# Altium integrated library FTDI FT12 Series.IntLib: 12 symbols
Pins are listed as number, name and electrical type; pins without a type are passive.

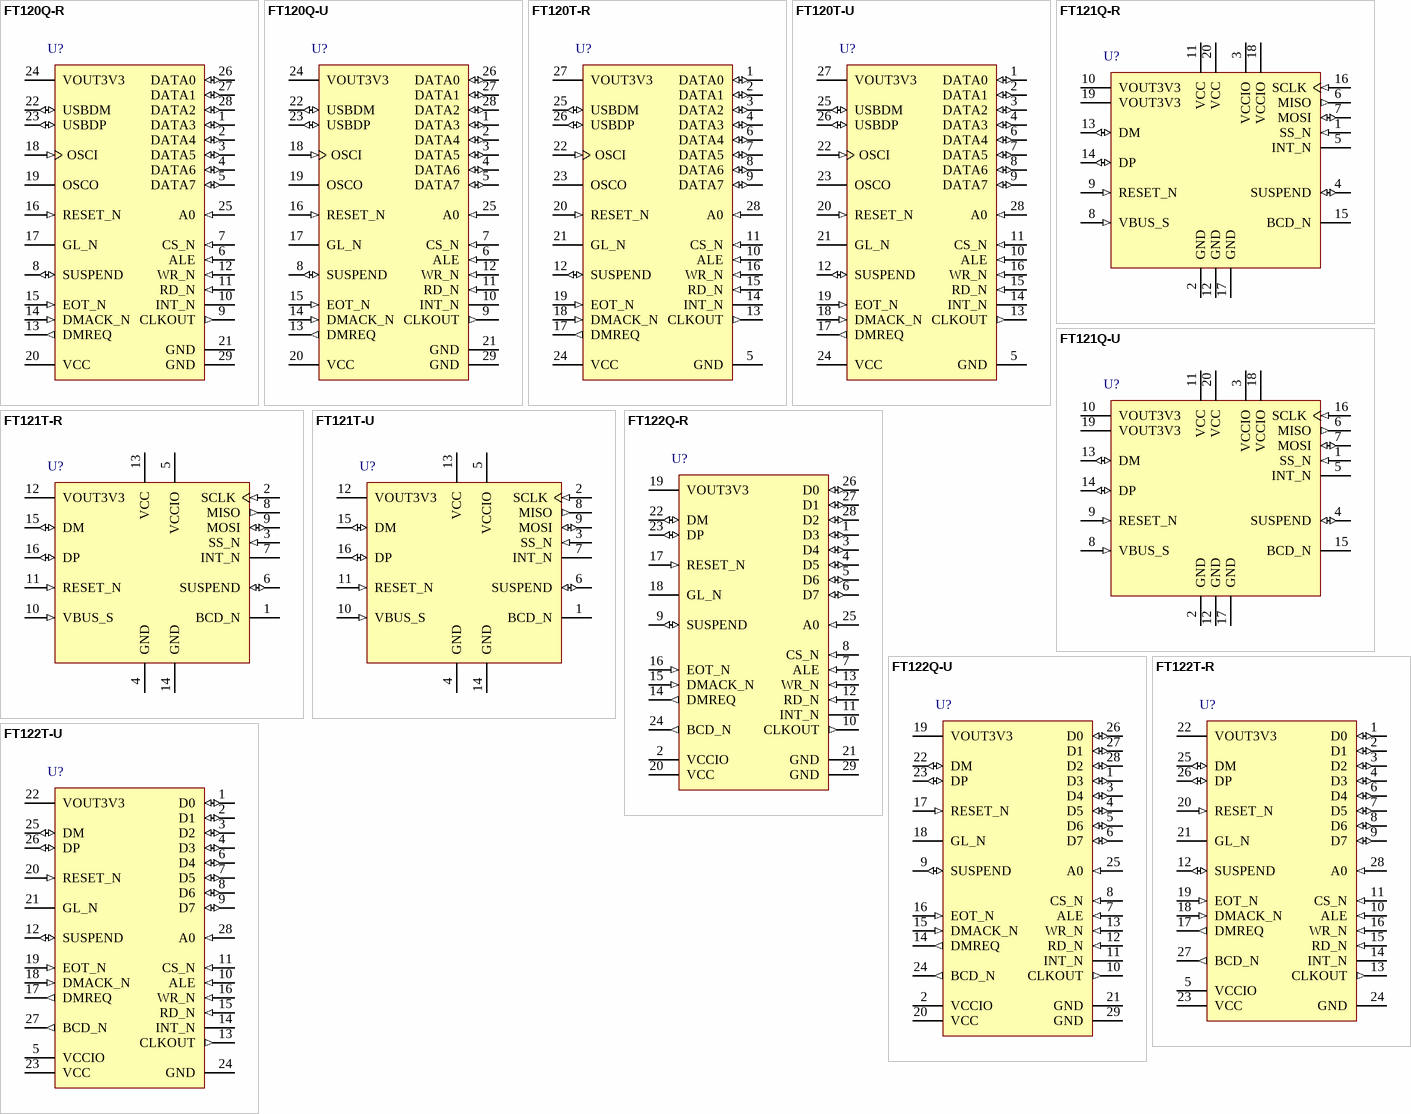
[diagram p0: symbols FT120Q-R to FT122T-U]

## FT120Q-R
designator U?
FT120 USB Device Controller with Parallel Bus IC, -40 to +85 degC, 28-Pin QFN, Pb-Free, Tape and Reel; Manufacturer: FTDI; PartNumber: FT120Q-R; DatasheetVersion: ver 1.0, May-2012; PackageVersion: May-12; PackageReference: QFN-28; PackageDescription: 28-Pin Quad Flat No-Lead, 4 x 4 mm Body, 0.4 mm Pitch, 2.5 x 2.5 mm Exposed Pad; ComponentLink1Description: Manufacturer URL; ComponentLink1URL: http://www.ftdichip.com/; ComponentLink2Description: Datasheet; ComponentLink2URL: http://www.ftdichip.com/Support/Documents/DataSheets/ICs/DS_FT120.pdf
footprint QFN-28_N (QFN, 28-Leads, Body 4x4mm, Pitch 0.4mm, Thermal Pad 2.5x2.5mm, IPC Medium Density)
footprint QFN-28_L (QFN, 28-Leads, Body 4x4mm, Pitch 0.4mm, Thermal Pad 2.5x2.5mm, IPC High Density)
footprint QFN-28_M (QFN, 28-Leads, Body 4x4mm, Pitch 0.4mm, Thermal Pad 2.5x2.5mm, IPC Low Density)
pins: 1 DATA3 (io) "Data bus bit 3.", 2 DATA4 (io) "Data bus bit 4.", 3 DATA5 (io) "Data bus bit 5.", 4 DATA6 (io) "Data bus bit 6.", 5 DATA7 (io) "Data bus bit 7.", 6 ALE (in) "Address latch enable for multiplexed address/data bus configuration. This pin must be pulled Low for non-multiplexed address/data bus configuration.", 7 CS_N (in) "Chip select (Active Low).", 8 SUSPEND (io) "Device suspend (output) and wakeup (input)", 9 CLKOUT (out) "Programmable output clock.", 10 INT_N (oc) "Interrupt (Active Low).", 11 RD_N (in) "Read enable (Active Low).", 12 WR_N (in) "Write enable (Active Low).", 13 DMREQ (out) "DMA request.", 14 DMACK_N (in) "DMA acknowledge (Active Low).", 15 EOT_N (in) "End of DMA transfer (Active Low). Also function as Vbus sensing input for self-powered application.", 16 RESET_N (in) "Asynchronous reset (Active Low).", 17 GL_N (oc) "USB bus activity indicator (Active Low)", 18 OSCI (in) "Crystal connection input (6MHz); alternatively, a 1.8V square wave clock can be applied.", 19 OSCO "Crystal connection output (6MHz) ; if the external clock signal is connected to OSCI, then OSCO should be left unconnected", 20 VCC (power) "Power supply (3.3V or 5V)", 21 GND (power) "Ground.", 22 USBDM (io) "USB data signal minus", 23 USBDP (io) "USB data signal plus", 24 VOUT3V3 (power) "3.3V regulator output for 5V operation; To operate the IC at 3.3 V, supply 3.3 V to both the VCC and VOUT3V3 pins", 25 A0 (in) "Address bit for non-multiplexed address/data bus configuration. A0=1 indicates command phase; A0=0 indicates data phase. This pin must be pulled High for multiplexed address/data bus configuration.", 26 DATA0 (io) "Data bus bit 0.", 27 DATA1 (io) "Data bus bit 1.", 28 DATA2 (io) "Data bus bit 2.", 29 GND (power) "Ground. Die pad for QFN-28 package."

## FT120Q-U
designator U?
FT120 USB Device Controller with Parallel Bus IC, -40 to +85 degC, 28-Pin QFN, Pb-Free, Tube; Manufacturer: FTDI; PartNumber: FT120Q-U; DatasheetVersion: ver 1.0, May-2012; PackageVersion: May-12; PackageReference: QFN-28; PackageDescription: 28-Pin Quad Flat No-Lead, 4 x 4 mm Body, 0.4 mm Pitch, 2.5 x 2.5 mm Exposed Pad; ComponentLink1Description: Manufacturer URL; ComponentLink1URL: http://www.ftdichip.com/; ComponentLink2Description: Datasheet; ComponentLink2URL: http://www.ftdichip.com/Support/Documents/DataSheets/ICs/DS_FT120.pdf
footprint QFN-28_N (QFN, 28-Leads, Body 4x4mm, Pitch 0.4mm, Thermal Pad 2.5x2.5mm, IPC Medium Density)
footprint QFN-28_L (QFN, 28-Leads, Body 4x4mm, Pitch 0.4mm, Thermal Pad 2.5x2.5mm, IPC High Density)
footprint QFN-28_M (QFN, 28-Leads, Body 4x4mm, Pitch 0.4mm, Thermal Pad 2.5x2.5mm, IPC Low Density)
pins: 1 DATA3 (io) "Data bus bit 3.", 2 DATA4 (io) "Data bus bit 4.", 3 DATA5 (io) "Data bus bit 5.", 4 DATA6 (io) "Data bus bit 6.", 5 DATA7 (io) "Data bus bit 7.", 6 ALE (in) "Address latch enable for multiplexed address/data bus configuration. This pin must be pulled Low for non-multiplexed address/data bus configuration.", 7 CS_N (in) "Chip select (Active Low).", 8 SUSPEND (io) "Device suspend (output) and wakeup (input)", 9 CLKOUT (out) "Programmable output clock.", 10 INT_N (oc) "Interrupt (Active Low).", 11 RD_N (in) "Read enable (Active Low).", 12 WR_N (in) "Write enable (Active Low).", 13 DMREQ (out) "DMA request.", 14 DMACK_N (in) "DMA acknowledge (Active Low).", 15 EOT_N (in) "End of DMA transfer (Active Low). Also function as Vbus sensing input for self-powered application.", 16 RESET_N (in) "Asynchronous reset (Active Low).", 17 GL_N (oc) "USB bus activity indicator (Active Low)", 18 OSCI (in) "Crystal connection input (6MHz); alternatively, a 1.8V square wave clock can be applied.", 19 OSCO "Crystal connection output (6MHz) ; if the external clock signal is connected to OSCI, then OSCO should be left unconnected", 20 VCC (power) "Power supply (3.3V or 5V)", 21 GND (power) "Ground.", 22 USBDM (io) "USB data signal minus", 23 USBDP (io) "USB data signal plus", 24 VOUT3V3 (power) "3.3V regulator output for 5V operation; To operate the IC at 3.3 V, supply 3.3 V to both the VCC and VOUT3V3 pins", 25 A0 (in) "Address bit for non-multiplexed address/data bus configuration. A0=1 indicates command phase; A0=0 indicates data phase. This pin must be pulled High for multiplexed address/data bus configuration.", 26 DATA0 (io) "Data bus bit 0.", 27 DATA1 (io) "Data bus bit 1.", 28 DATA2 (io) "Data bus bit 2.", 29 GND (power) "Ground. Die pad for QFN-28 package."

## FT120T-R
designator U?
FT120 USB Device Controller with Parallel Bus IC, -40 to +85 degC, 28-Pin TSSOP, Pb-Free, Tape and Reel; Manufacturer: FTDI; PartNumber: FT120T-R; DatasheetVersion: ver 1.0, May-2012; PackageVersion: May-12; PackageReference: TSSOP-28; PackageDescription: 28-Pin Thin Small Outline Package, 9.7 x 4.4 mm Body, 0.65 mm Pitch; ComponentLink1Description: Manufacturer URL; ComponentLink1URL: http://www.ftdichip.com/; ComponentLink2Description: Datasheet; ComponentLink2URL: http://www.ftdichip.com/Support/Documents/DataSheets/ICs/DS_FT120.pdf
footprint TSSOP-28_N (SOP, 28-Leads, Body 9.7x4.4mm, Pitch 0.65mm, IPC Medium Density)
footprint TSSOP-28_L (SOP, 28-Leads, Body 9.7x4.4mm, Pitch 0.65mm, IPC High Density)
footprint TSSOP-28_M (SOP, 28-Leads, Body 9.7x4.4mm, Pitch 0.65mm, IPC Low Density)
pins: 1 DATA0 (io) "Data bus bit 0.", 2 DATA1 (io) "Data bus bit 1.", 3 DATA2 (io) "Data bus bit 2.", 4 DATA3 (io) "Data bus bit 3.", 5 GND (power) "Ground.", 6 DATA4 (io) "Data bus bit 4.", 7 DATA5 (io) "Data bus bit 5.", 8 DATA6 (io) "Data bus bit 6.", 9 DATA7 (io) "Data bus bit 7.", 10 ALE (in) "Address latch enable for multiplexed address/data bus configuration. This pin must be pulled Low for non-multiplexed address/data bus configuration.", 11 CS_N (in) "Chip select (Active Low).", 12 SUSPEND (io) "Device suspend (output) and wakeup (input).", 13 CLKOUT (out) "Programmable output clock.", 14 INT_N (oc) "Interrupt (Active Low).", 15 RD_N (in) "Read enable (Active Low).", 16 WR_N (in) "Write enable (Active Low).", 17 DMREQ (out) "DMA request.", 18 DMACK_N (in) "DMA acknowledge (Active Low).", 19 EOT_N (in) "End of DMA transfer (Active Low). Also function as Vbus sensing input for self-powered application.", 20 RESET_N (in) "Asynchronous reset (Active Low).", 21 GL_N (oc) "USB bus activity indicator (Active Low)", 22 OSCI (in) "Crystal connection input (6MHz); alternatively, a 1.8V square wave clock can be applied.", 23 OSCO "Crystal connection output (6MHz) ; if the external clock signal is connected to OSCI, then OSCO should be left unconnected", 24 VCC (power) "Power supply (3.3V or 5V)", 25 USBDM (io) "USB data signal minus", 26 USBDP (io) "USB data signal plus", 27 VOUT3V3 (power) "3.3V regulator output for 5V operation; To operate the IC at 3.3 V, supply 3.3 V to both the VCC and VOUT3V3 pins", 28 A0 (in) "Address bit for non-multiplexed address/data bus configuration. A0=1 indicates command phase; A0=0 indicates data phase. This pin must be pulled High for multiplexed address/data bus configuration."

## FT120T-U
designator U?
FT120 USB Device Controller with Parallel Bus IC, -40 to +85 degC, 28-Pin TSSOP, Pb-Free, Tube; Manufacturer: FTDI; PartNumber: FT120T-U; DatasheetVersion: ver 1.0, May-2012; PackageVersion: May-12; PackageReference: TSSOP-28; PackageDescription: 28-Pin Thin Small Outline Package, 9.7 x 4.4 mm Body, 0.65 mm Pitch; ComponentLink1Description: Manufacturer URL; ComponentLink1URL: http://www.ftdichip.com/; ComponentLink2Description: Datasheet; ComponentLink2URL: http://www.ftdichip.com/Support/Documents/DataSheets/ICs/DS_FT120.pdf
footprint TSSOP-28_N (SOP, 28-Leads, Body 9.7x4.4mm, Pitch 0.65mm, IPC Medium Density)
footprint TSSOP-28_L (SOP, 28-Leads, Body 9.7x4.4mm, Pitch 0.65mm, IPC High Density)
footprint TSSOP-28_M (SOP, 28-Leads, Body 9.7x4.4mm, Pitch 0.65mm, IPC Low Density)
pins: 1 DATA0 (io) "Data bus bit 0.", 2 DATA1 (io) "Data bus bit 1.", 3 DATA2 (io) "Data bus bit 2.", 4 DATA3 (io) "Data bus bit 3.", 5 GND (power) "Ground.", 6 DATA4 (io) "Data bus bit 4.", 7 DATA5 (io) "Data bus bit 5.", 8 DATA6 (io) "Data bus bit 6.", 9 DATA7 (io) "Data bus bit 7.", 10 ALE (in) "Address latch enable for multiplexed address/data bus configuration. This pin must be pulled Low for non-multiplexed address/data bus configuration.", 11 CS_N (in) "Chip select (Active Low).", 12 SUSPEND (io) "Device suspend (output) and wakeup (input).", 13 CLKOUT (out) "Programmable output clock.", 14 INT_N (oc) "Interrupt (Active Low).", 15 RD_N (in) "Read enable (Active Low).", 16 WR_N (in) "Write enable (Active Low).", 17 DMREQ (out) "DMA request.", 18 DMACK_N (in) "DMA acknowledge (Active Low).", 19 EOT_N (in) "End of DMA transfer (Active Low). Also function as Vbus sensing input for self-powered application.", 20 RESET_N (in) "Asynchronous reset (Active Low).", 21 GL_N (oc) "USB bus activity indicator (Active Low)", 22 OSCI (in) "Crystal connection input (6MHz); alternatively, a 1.8V square wave clock can be applied.", 23 OSCO "Crystal connection output (6MHz) ; if the external clock signal is connected to OSCI, then OSCO should be left unconnected", 24 VCC (power) "Power supply (3.3V or 5V)", 25 USBDM (io) "USB data signal minus", 26 USBDP (io) "USB data signal plus", 27 VOUT3V3 (power) "3.3V regulator output for 5V operation; To operate the IC at 3.3 V, supply 3.3 V to both the VCC and VOUT3V3 pins", 28 A0 (in) "Address bit for non-multiplexed address/data bus configuration. A0=1 indicates command phase; A0=0 indicates data phase. This pin must be pulled High for multiplexed address/data bus configuration."

## FT121Q-R
designator U?
FT121 Enhanced USB Device Controller with SPI Slave IC, -40 to +85 degC, 16-Pin QFN, Pb-Free, Tape and Reel; Manufacturer: FTDI; PartNumber: FT121Q-R; DatasheetVersion: ver 1.1, Jul-2013; PackageVersion: Jul-13; PackageReference: QFN3X3-16; PackageDescription: 16-Pin Quad Flat No-Lead, 3x3 mm Body, 0.5 mm Pitch; ComponentLink1Description: Manufacturer URL; ComponentLink1URL: http://www.ftdichip.com/; ComponentLink2Description: Datasheet; ComponentLink2URL: http://www.ftdichip.com/Support/Documents/DataSheets/ICs/DS_FT121.pdf
footprint QFN3X3-16_N (QFN, 16-Leads, Body 3x3mm, Pitch 0.5mm, IPC Medium Density)
footprint QFN3X3-16_L (QFN, 16-Leads, Body 3x3mm, Pitch 0.5mm, IPC High Density)
footprint QFN3X3-16_M (QFN, 16-Leads, Body 3x3mm, Pitch 0.5mm, IPC Low Density)
pins: 1 SS_N (in) "SPI slave select input", 2 GND (power) "Ground", 3 VCCIO (power) "IO Supply Voltage; 1.8V, 2.5V or 3.3V", 4 SUSPEND (io) "Device suspend (output) and wakeup (input)", 5 INT_N (oc) "Interrupt (Active Low)", 6 MISO (out) "4-wire mode: SPI slave output, 3-wire mode: no function. Leave it un-connected", 7 MOSI (io) "4-wire mode: SPI salve input, 3-wire mode: SPI data input/output", 8 VBUS_S (in) "Vbus sensing input", 9 RESET_N (in) "Asynchronous reset (Active Low)", 10 VOUT3V3 (power) "3.3V regulator output for 5V operation; To operate the IC at 3.3 V, supply 3.3 V to both the VCC and VOUT3V3 pins", 11 VCC (power) "Power supply (3.3V or 5V)", 12 GND (power) "Ground", 13 DM (io) "USB data signal minus", 14 DP (io) "USB data signal plus", 15 BCD_N (oc) "USB Charger detector output", 16 SCLK (in) "SPI clock input", 17 GND (power) "Ground Center bottom pad – may be left unconnected", 18 VCCIO (power) "IO Supply Voltage; 1.8V, 2.5V or 3.3V Center bottom pad – may be left unconnected", 19 VOUT3V3 (power) "3.3V regulator output for 5V operation; To operate the IC at 3.3 V, supply 3.3 V to both the VCC and VOUT3V3 pins Center bottom pad – may be left unconnected", 20 VCC (power) "Power supply (3.3V or 5V) Center bottom pad – may be left unconnected"

## FT121Q-U
designator U?
FT121 Enhanced USB Device Controller with SPI Slave IC, -40 to +85 degC, 16-Pin QFN, Pb-Free, Tube; Manufacturer: FTDI; PartNumber: FT121Q-U; DatasheetVersion: ver 1.1, Jul-2013; PackageVersion: Jul-13; PackageReference: QFN3X3-16; PackageDescription: 16-Pin Quad Flat No-Lead, 3x3 mm Body, 0.5 mm Pitch; ComponentLink1Description: Manufacturer URL; ComponentLink1URL: http://www.ftdichip.com/; ComponentLink2Description: Datasheet; ComponentLink2URL: http://www.ftdichip.com/Support/Documents/DataSheets/ICs/DS_FT121.pdf
footprint QFN3X3-16_N (QFN, 16-Leads, Body 3x3mm, Pitch 0.5mm, IPC Medium Density)
footprint QFN3X3-16_L (QFN, 16-Leads, Body 3x3mm, Pitch 0.5mm, IPC High Density)
footprint QFN3X3-16_M (QFN, 16-Leads, Body 3x3mm, Pitch 0.5mm, IPC Low Density)
pins: 1 SS_N (in) "SPI slave select input", 2 GND (power) "Ground", 3 VCCIO (power) "IO Supply Voltage; 1.8V, 2.5V or 3.3V", 4 SUSPEND (io) "Device suspend (output) and wakeup (input)", 5 INT_N (oc) "Interrupt (Active Low)", 6 MISO (out) "4-wire mode: SPI slave output, 3-wire mode: no function. Leave it un-connected", 7 MOSI (io) "4-wire mode: SPI salve input, 3-wire mode: SPI data input/output", 8 VBUS_S (in) "Vbus sensing input", 9 RESET_N (in) "Asynchronous reset (Active Low)", 10 VOUT3V3 (power) "3.3V regulator output for 5V operation; To operate the IC at 3.3 V, supply 3.3 V to both the VCC and VOUT3V3 pins", 11 VCC (power) "Power supply (3.3V or 5V)", 12 GND (power) "Ground", 13 DM (io) "USB data signal minus", 14 DP (io) "USB data signal plus", 15 BCD_N (oc) "USB Charger detector output", 16 SCLK (in) "SPI clock input", 17 GND (power) "Ground Center bottom pad – may be left unconnected", 18 VCCIO (power) "IO Supply Voltage; 1.8V, 2.5V or 3.3V Center bottom pad – may be left unconnected", 19 VOUT3V3 (power) "3.3V regulator output for 5V operation; To operate the IC at 3.3 V, supply 3.3 V to both the VCC and VOUT3V3 pins Center bottom pad – may be left unconnected", 20 VCC (power) "Power supply (3.3V or 5V) Center bottom pad – may be left unconnected"

## FT121T-R
designator U?
FT121 Enhanced USB Device Controller with SPI Slave IC, -40 to +85 degC, 16-Pin TSSOP, Pb-Free, Tape and Reel; Manufacturer: FTDI; PartNumber: FT121T-R; DatasheetVersion: ver 1.1, Jul-2013; PackageVersion: Jul-13; PackageReference: TSSOP-16; PackageDescription: 16-Pin Thin Small Outline Package, 5 x 4.4 mm Body, 0.65 mm Pitch; ComponentLink1Description: Manufacturer URL; ComponentLink1URL: http://www.ftdichip.com/; ComponentLink2Description: Datasheet; ComponentLink2URL: http://www.ftdichip.com/Support/Documents/DataSheets/ICs/DS_FT121.pdf
footprint TSSOP-16_N (SOP, 16-Leads, Body 5x4.4mm, Pitch 0.65mm, IPC Medium Density)
footprint TSSOP-16_L (SOP, 16-Leads, Body 5x4.4mm, Pitch 0.65mm, IPC High Density)
footprint TSSOP-16_M (SOP, 16-Leads, Body 5x4.4mm, Pitch 0.65mm, IPC Low Density)
pins: 1 BCD_N (oc) "USB Charger detector output", 2 SCLK (in) "SPI clock input", 3 SS_N (in) "SPI slave select input", 4 GND (power) "Ground", 5 VCCIO (power) "IO Supply Voltage; 1.8V, 2.5V or 3.3V", 6 SUSPEND (io) "Device suspend (output) and wakeup (input)", 7 INT_N (oc) "Interrupt (Active Low)", 8 MISO (out) "4-wire mode: SPI slave output, 3-wire mode: no function. Leave it un-connected", 9 MOSI (io) "4-wire mode: SPI salve input, 3-wire mode: SPI data input/output", 10 VBUS_S (in) "Vbus sensing input", 11 RESET_N (in) "Asynchronous reset (Active Low)", 12 VOUT3V3 (power) "3.3V regulator output for 5V operation; To operate the IC at 3.3 V, supply 3.3 V to both the VCC and VOUT3V3 pins", 13 VCC (power) "Power supply (3.3V or 5V)", 14 GND (power) "Ground", 15 DM (io) "USB data signal minus", 16 DP (io) "USB data signal plus"

## FT121T-U
designator U?
FT121 Enhanced USB Device Controller with SPI Slave IC, -40 to +85 degC, 16-Pin TSSOP, Pb-Free, Tube; Manufacturer: FTDI; PartNumber: FT121T-U; DatasheetVersion: ver 1.1, Jul-2013; PackageVersion: Jul-13; PackageReference: TSSOP-16; PackageDescription: 16-Pin Thin Small Outline Package, 5 x 4.4 mm Body, 0.65 mm Pitch; ComponentLink1Description: Manufacturer URL; ComponentLink1URL: http://www.ftdichip.com/; ComponentLink2Description: Datasheet; ComponentLink2URL: http://www.ftdichip.com/Support/Documents/DataSheets/ICs/DS_FT121.pdf
footprint TSSOP-16_N (SOP, 16-Leads, Body 5x4.4mm, Pitch 0.65mm, IPC Medium Density)
footprint TSSOP-16_L (SOP, 16-Leads, Body 5x4.4mm, Pitch 0.65mm, IPC High Density)
footprint TSSOP-16_M (SOP, 16-Leads, Body 5x4.4mm, Pitch 0.65mm, IPC Low Density)
pins: 1 BCD_N (oc) "USB Charger detector output", 2 SCLK (in) "SPI clock input", 3 SS_N (in) "SPI slave select input", 4 GND (power) "Ground", 5 VCCIO (power) "IO Supply Voltage; 1.8V, 2.5V or 3.3V", 6 SUSPEND (io) "Device suspend (output) and wakeup (input)", 7 INT_N (oc) "Interrupt (Active Low)", 8 MISO (out) "4-wire mode: SPI slave output, 3-wire mode: no function. Leave it un-connected", 9 MOSI (io) "4-wire mode: SPI salve input, 3-wire mode: SPI data input/output", 10 VBUS_S (in) "Vbus sensing input", 11 RESET_N (in) "Asynchronous reset (Active Low)", 12 VOUT3V3 (power) "3.3V regulator output for 5V operation; To operate the IC at 3.3 V, supply 3.3 V to both the VCC and VOUT3V3 pins", 13 VCC (power) "Power supply (3.3V or 5V)", 14 GND (power) "Ground", 15 DM (io) "USB data signal minus", 16 DP (io) "USB data signal plus"

## FT122Q-R
designator U?
FT122 Enhanced USB Device Controller with Parallel Bus IC, -40 to +85 degC, 28-Pin QFN, Pb-Free, Tape and Reel; Manufacturer: FTDI; PartNumber: FT122Q-R; DatasheetVersion: ver 1.0, Oct-2012; PackageVersion: Oct-12; PackageReference: QFN-28; PackageDescription: 28-Pin Quad Flat No-Lead, 4 x 4 mm Body, 0.4 mm Pitch, 2.5 x 2.5 mm Exposed Pad; ComponentLink1Description: Manufacturer URL; ComponentLink1URL: http://www.ftdichip.com/; ComponentLink2Description: Datasheet; ComponentLink2URL: http://www.ftdichip.com/Support/Documents/DataSheets/ICs/DS_FT122.pdf
footprint QFN-28_N (QFN, 28-Leads, Body 4x4mm, Pitch 0.4mm, Thermal Pad 2.5x2.5mm, IPC Medium Density)
footprint QFN-28_L (QFN, 28-Leads, Body 4x4mm, Pitch 0.4mm, Thermal Pad 2.5x2.5mm, IPC High Density)
footprint QFN-28_M (QFN, 28-Leads, Body 4x4mm, Pitch 0.4mm, Thermal Pad 2.5x2.5mm, IPC Low Density)
pins: 1 D3 (io) "Data bus bit 3.", 2 VCCIO (power) "IO Supply Voltage; 1.8V, 2.5V or 3.3V", 3 D4 (io) "Data bus bit 4.", 4 D5 (io) "Data bus bit 5.", 5 D6 (io) "Data bus bit 6.", 6 D7 (io) "Data bus bit 7.", 7 ALE (in) "Address latch enable for multiplexed address/data bus configuration. This pin must be pulled Low for non-multiplexed address/data bus configuration.", 8 CS_N (in) "Chip select (Active Low).", 9 SUSPEND (io) "Device suspend (output) and wakeup (input).", 10 CLKOUT (out) "Programmable output clock.", 11 INT_N (oc) "Interrupt (Active Low).", 12 RD_N (in) "Read enable (Active Low).", 13 WR_N (in) "Write enable (Active Low).", 14 DMREQ (out) "DMA request.", 15 DMACK_N (in) "DMA acknowledge (Active Low).", 16 EOT_N (in) "End of DMA transfer (Active Low). Also function as Vbus sensing input for self-powered application.", 17 RESET_N (in) "Asynchronous reset (Active Low).", 18 GL_N (oc) "USB bus activity indicator (Active Low)", 19 VOUT3V3 (power) "3.3V regulator output for 5V operation; To operate the IC at 3.3 V, supply 3.3 V to both the VCC and VOUT3V3 pins", 20 VCC (power) "Power supply (3.3V or 5V)", 21 GND (power) "Ground", 22 DM (io) "USB data signal minus", 23 DP (io) "USB data signal plus", 24 BCD_N (out) "USB Charger detector output", 25 A0 (in) "Address bit for non-multiplexed address/data bus configuration. A0=1 indicates command phase; A0=0 indicates data phase. This pin must be pulled High for multiplexed address/data bus configuration.", 26 D0 (io) "Data bus bit 0.", 27 D1 (io) "Data bus bit 1.", 28 D2 (io) "Data bus bit 2", 29 GND (power) "Ground. Die pad for QFN-28 package."

## FT122Q-U
designator U?
FT122 Enhanced USB Device Controller with Parallel Bus IC, -40 to +85 degC, 28-Pin QFN, Pb-Free, Tube; Manufacturer: FTDI; PartNumber: FT122Q-U; DatasheetVersion: ver 1.0, Oct-2012; PackageVersion: Oct-12; PackageReference: QFN-28; PackageDescription: 28-Pin Quad Flat No-Lead, 4 x 4 mm Body, 0.4 mm Pitch, 2.5 x 2.5 mm Exposed Pad; ComponentLink1Description: Manufacturer URL; ComponentLink1URL: http://www.ftdichip.com/; ComponentLink2Description: Datasheet; ComponentLink2URL: http://www.ftdichip.com/Support/Documents/DataSheets/ICs/DS_FT122.pdf
footprint QFN-28_N (QFN, 28-Leads, Body 4x4mm, Pitch 0.4mm, Thermal Pad 2.5x2.5mm, IPC Medium Density)
footprint QFN-28_L (QFN, 28-Leads, Body 4x4mm, Pitch 0.4mm, Thermal Pad 2.5x2.5mm, IPC High Density)
footprint QFN-28_M (QFN, 28-Leads, Body 4x4mm, Pitch 0.4mm, Thermal Pad 2.5x2.5mm, IPC Low Density)
pins: 1 D3 (io) "Data bus bit 3.", 2 VCCIO (power) "IO Supply Voltage; 1.8V, 2.5V or 3.3V", 3 D4 (io) "Data bus bit 4.", 4 D5 (io) "Data bus bit 5.", 5 D6 (io) "Data bus bit 6.", 6 D7 (io) "Data bus bit 7.", 7 ALE (in) "Address latch enable for multiplexed address/data bus configuration. This pin must be pulled Low for non-multiplexed address/data bus configuration.", 8 CS_N (in) "Chip select (Active Low).", 9 SUSPEND (io) "Device suspend (output) and wakeup (input).", 10 CLKOUT (out) "Programmable output clock.", 11 INT_N (oc) "Interrupt (Active Low).", 12 RD_N (in) "Read enable (Active Low).", 13 WR_N (in) "Write enable (Active Low).", 14 DMREQ (out) "DMA request.", 15 DMACK_N (in) "DMA acknowledge (Active Low).", 16 EOT_N (in) "End of DMA transfer (Active Low). Also function as Vbus sensing input for self-powered application.", 17 RESET_N (in) "Asynchronous reset (Active Low).", 18 GL_N (oc) "USB bus activity indicator (Active Low)", 19 VOUT3V3 (power) "3.3V regulator output for 5V operation; To operate the IC at 3.3 V, supply 3.3 V to both the VCC and VOUT3V3 pins", 20 VCC (power) "Power supply (3.3V or 5V)", 21 GND (power) "Ground", 22 DM (io) "USB data signal minus", 23 DP (io) "USB data signal plus", 24 BCD_N (out) "USB Charger detector output", 25 A0 (in) "Address bit for non-multiplexed address/data bus configuration. A0=1 indicates command phase; A0=0 indicates data phase. This pin must be pulled High for multiplexed address/data bus configuration.", 26 D0 (io) "Data bus bit 0.", 27 D1 (io) "Data bus bit 1.", 28 D2 (io) "Data bus bit 2", 29 GND (power) "Ground. Die pad for QFN-28 package."

## FT122T-R
designator U?
FT122 Enhanced USB Device Controller with Parallel Bus IC, -40 to +85 degC, 28-Pin TSSOP, Pb-Free, Tape and Reel; Manufacturer: FTDI; PartNumber: FT122T-R; DatasheetVersion: ver 1.0, Oct-2012; PackageVersion: Oct-12; PackageReference: TSSOP-28; PackageDescription: 28-Pin Thin Small Outline Package, 9.7 x 4.4 mm Body, 0.65 mm Pitch; ComponentLink1Description: Manufacturer URL; ComponentLink1URL: http://www.ftdichip.com/; ComponentLink2Description: Datasheet; ComponentLink2URL: http://www.ftdichip.com/Support/Documents/DataSheets/ICs/DS_FT122.pdf
footprint TSSOP-28_N (SOP, 28-Leads, Body 9.7x4.4mm, Pitch 0.65mm, IPC Medium Density)
footprint TSSOP-28_L (SOP, 28-Leads, Body 9.7x4.4mm, Pitch 0.65mm, IPC High Density)
footprint TSSOP-28_M (SOP, 28-Leads, Body 9.7x4.4mm, Pitch 0.65mm, IPC Low Density)
pins: 1 D0 (io) "Data bus bit 0.", 2 D1 (io) "Data bus bit 1.", 3 D2 (io) "Data bus bit 2", 4 D3 (io) "Data bus bit 3.", 5 VCCIO (power) "IO Supply Voltage; 1.8V, 2.5V or 3.3V", 6 D4 (io) "Data bus bit 4.", 7 D5 (io) "Data bus bit 5.", 8 D6 (io) "Data bus bit 6.", 9 D7 (io) "Data bus bit 7.", 10 ALE (in) "Address latch enable for multiplexed address/data bus configuration. This pin must be pulled Low for non-multiplexed address/data bus configuration.", 11 CS_N (in) "Chip select (Active Low).", 12 SUSPEND (io) "Device suspend (output) and wakeup (input).", 13 CLKOUT (out) "Programmable output clock.", 14 INT_N (oc) "Interrupt (Active Low).", 15 RD_N (in) "Read enable (Active Low).", 16 WR_N (in) "Write enable (Active Low).", 17 DMREQ (out) "DMA request.", 18 DMACK_N (in) "DMA acknowledge (Active Low).", 19 EOT_N (in) "End of DMA transfer (Active Low). Also function as Vbus sensing input for self-powered application.", 20 RESET_N (in) "Asynchronous reset (Active Low).", 21 GL_N (oc) "USB bus activity indicator (Active Low)", 22 VOUT3V3 (power) "3.3V regulator output for 5V operation; To operate the IC at 3.3 V, supply 3.3 V to both the VCC and VOUT3V3 pins", 23 VCC (power) "Power supply (3.3V or 5V)", 24 GND (power) "Ground", 25 DM (io) "USB data signal minus", 26 DP (io) "USB data signal plus", 27 BCD_N (out) "USB Charger detector output", 28 A0 (in) "Address bit for non-multiplexed address/data bus configuration. A0=1 indicates command phase; A0=0 indicates data phase. This pin must be pulled High for multiplexed address/data bus configuration."

## FT122T-U
designator U?
FT122 Enhanced USB Device Controller with Parallel Bus IC, -40 to +85 degC, 28-Pin TSSOP, Pb-Free, Tube; Manufacturer: FTDI; PartNumber: FT122T-U; DatasheetVersion: ver 1.0, Oct-2012; PackageVersion: Oct-12; PackageReference: TSSOP-28; PackageDescription: 28-Pin Thin Small Outline Package, 9.7 x 4.4 mm Body, 0.65 mm Pitch; ComponentLink1Description: Manufacturer URL; ComponentLink1URL: http://www.ftdichip.com/; ComponentLink2Description: Datasheet; ComponentLink2URL: http://www.ftdichip.com/Support/Documents/DataSheets/ICs/DS_FT122.pdf
footprint TSSOP-28_N (SOP, 28-Leads, Body 9.7x4.4mm, Pitch 0.65mm, IPC Medium Density)
footprint TSSOP-28_L (SOP, 28-Leads, Body 9.7x4.4mm, Pitch 0.65mm, IPC High Density)
footprint TSSOP-28_M (SOP, 28-Leads, Body 9.7x4.4mm, Pitch 0.65mm, IPC Low Density)
pins: 1 D0 (io) "Data bus bit 0.", 2 D1 (io) "Data bus bit 1.", 3 D2 (io) "Data bus bit 2", 4 D3 (io) "Data bus bit 3.", 5 VCCIO (power) "IO Supply Voltage; 1.8V, 2.5V or 3.3V", 6 D4 (io) "Data bus bit 4.", 7 D5 (io) "Data bus bit 5.", 8 D6 (io) "Data bus bit 6.", 9 D7 (io) "Data bus bit 7.", 10 ALE (in) "Address latch enable for multiplexed address/data bus configuration. This pin must be pulled Low for non-multiplexed address/data bus configuration.", 11 CS_N (in) "Chip select (Active Low).", 12 SUSPEND (io) "Device suspend (output) and wakeup (input).", 13 CLKOUT (out) "Programmable output clock.", 14 INT_N (oc) "Interrupt (Active Low).", 15 RD_N (in) "Read enable (Active Low).", 16 WR_N (in) "Write enable (Active Low).", 17 DMREQ (out) "DMA request.", 18 DMACK_N (in) "DMA acknowledge (Active Low).", 19 EOT_N (in) "End of DMA transfer (Active Low). Also function as Vbus sensing input for self-powered application.", 20 RESET_N (in) "Asynchronous reset (Active Low).", 21 GL_N (oc) "USB bus activity indicator (Active Low)", 22 VOUT3V3 (power) "3.3V regulator output for 5V operation; To operate the IC at 3.3 V, supply 3.3 V to both the VCC and VOUT3V3 pins", 23 VCC (power) "Power supply (3.3V or 5V)", 24 GND (power) "Ground", 25 DM (io) "USB data signal minus", 26 DP (io) "USB data signal plus", 27 BCD_N (out) "USB Charger detector output", 28 A0 (in) "Address bit for non-multiplexed address/data bus configuration. A0=1 indicates command phase; A0=0 indicates data phase. This pin must be pulled High for multiplexed address/data bus configuration."